# EAGLE library part LGT8F328P-32 (library we-chip)
LogicGreen LGT8F328P LGT8XM Microcontroller (AVR compatible)
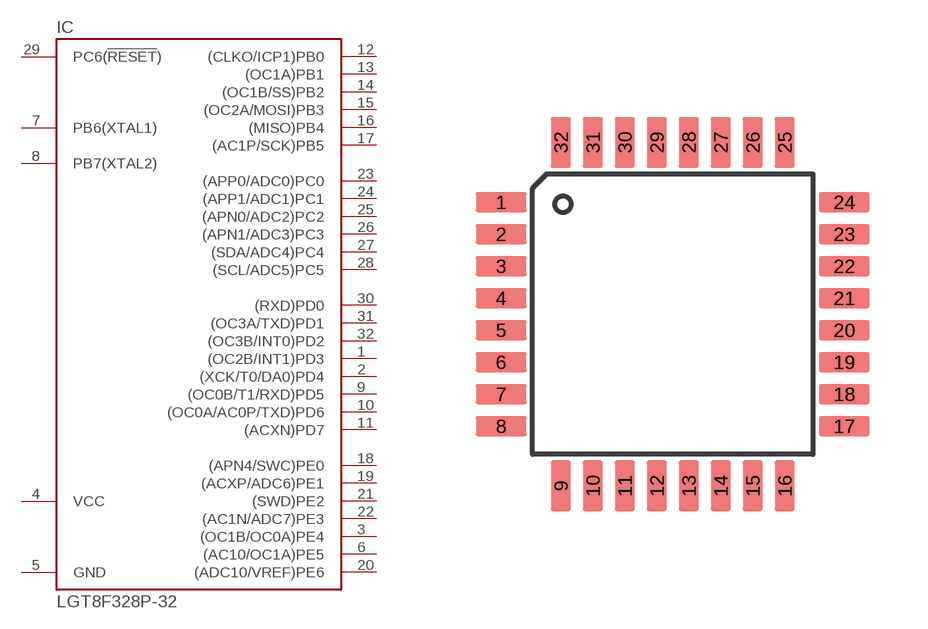
[diagram p51: symbol with the pads of TQFP32; footprint TQFP32]

Designator prefix IC

## LGT8F328P-32  [TQFP32]
1  (OC2B/INT1)PD3
2  (XCK/T0/DA0)PD4
3  (OC1B/OC0A)PE4
4  VCC  pwr
5  GND  pwr
6  (AC10/OC1A)PE5
7  PB6(XTAL1)
8  PB7(XTAL2)
9  (OC0B/T1/RXD)PD5
10  (OC0A/AC0P/TXD)PD6
11  (ACXN)PD7
12  (CLKO/ICP1)PB0
13  (OC1A)PB1
14  (OC1B/SS)PB2
15  (OC2A/MOSI)PB3
16  (MISO)PB4
17  (AC1P/SCK)PB5
18  (APN4/SWC)PE0
19  (ACXP/ADC6)PE1
20  (ADC10/VREF)PE6
21  (SWD)PE2
22  (AC1N/ADC7)PE3
23  (APP0/ADC0)PC0
24  (APP1/ADC1)PC1
25  (APN0/ADC2)PC2
26  (APN1/ADC3)PC3
27  (SDA/ADC4)PC4
28  (SCL/ADC5)PC5
29  PC6(!RESET!)
30  (RXD)PD0
31  (OC3A/TXD)PD1
32  (OC3B/INT0)PD2

## Footprint TQFP32 (pad centres in mm)
smd 1.27 x 0.5: 1 -4.293,2.8; 2 -4.293,2; 3 -4.293,1.2; 4 -4.293,0.4; 5 -4.293,-0.4; 6 -4.293,-1.2; 7 -4.293,-2; 8 -4.293,-2.8; 17 4.293,-2.8; 18 4.293,-2; 19 4.293,-1.2; 20 4.293,-0.4; 21 4.293,0.4; 22 4.293,1.2; 23 4.293,2; 24 4.293,2.8
smd 0.5 x 1.27: 9 -2.8,-4.293; 10 -2,-4.293; 11 -1.2,-4.293; 12 -0.4,-4.293; 13 0.4,-4.293; 14 1.2,-4.293; 15 2,-4.293; 16 2.8,-4.293; 25 2.8,4.293; 26 2,4.293; 27 1.2,4.293; 28 0.4,4.293; 29 -0.4,4.293; 30 -1.2,4.293; 31 -2,4.293; 32 -2.8,4.293